# Altium schematic symbol library FILTERS.SchLib: 1 symbol
Pins are listed as number, name and electrical type; pins without a type are passive.

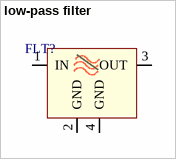
[diagram p0: symbol low-pass filter]

## low-pass filter
designator FLT?  (value not drawn)
type: *
footprint 4_DLF162500LT-5028A1 (1.6mm x 0.8mm x 0.35mm,f= 2.4 GHz,Bw = 100 MHz, 50 ohm)
pins: 1 IN, 2 GND (power), 3 OUT, 4 GND (power)